# EAGLE library part ADM1024ARUZ (library ON Semiconductor_By_element14_Batch_1)
IC MONITOR SYS TEMP/VOLT
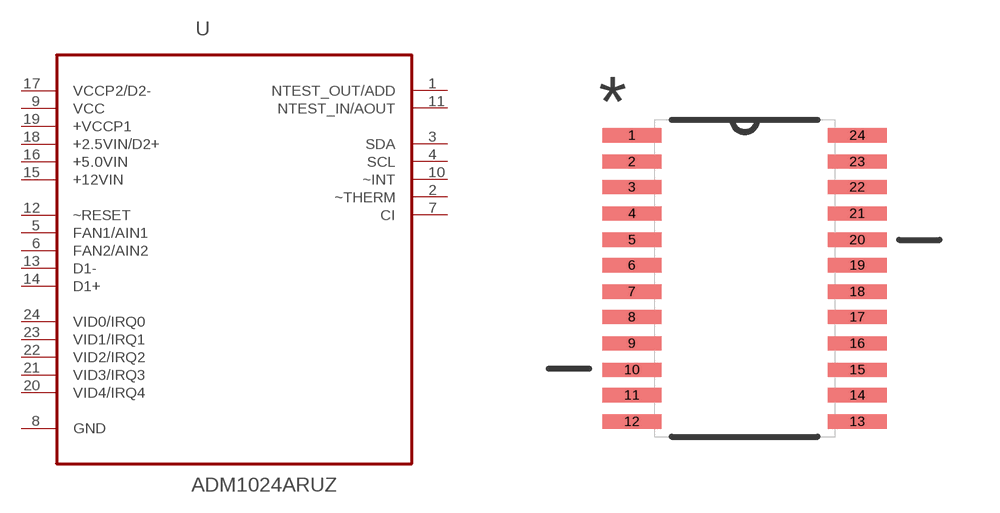
[diagram p2: symbol with the pads of SOP65P640X120-24N; footprint SOP65P640X120-24N]

Designator prefix U

## ADM1024ARUZ (MPN: ADM1024ARUZ; OC_FARNELL: -; OC_NEWARK: 19M8680; PACKAGE: TSSOP-24; SUPPLIER: ON SEMICONDUCTOR)  [SOP65P640X120-24N]
1  NTEST_OUT/ADD
2  ~THERM
3  SDA
4  SCL  out
5  FAN1/AIN1  in
6  FAN2/AIN2  in
7  CI
8  GND  pas
9  VCC  pwr
10  ~INT  out
11  NTEST_IN/AOUT
12  ~RESET
13  D1-  in
14  D1+  in
15  +12VIN  in
16  +5.0VIN  in
17  VCCP2/D2-  pwr
18  +2.5VIN/D2+  in
19  +VCCP1  pwr
20  VID4/IRQ4  in
21  VID3/IRQ3  in
22  VID2/IRQ2  in
23  VID1/IRQ1  in
24  VID0/IRQ0  in

## Footprint SOP65P640X120-24N (pad centres in mm)
smd 1.473 x 0.356: 1 -2.819,3.581; 2 -2.819,2.921; 3 -2.819,2.286; 4 -2.819,1.626; 5 -2.819,0.965; 6 -2.819,0.33; 7 -2.819,-0.33; 8 -2.819,-0.965; 9 -2.819,-1.626; 10 -2.819,-2.286; 11 -2.819,-2.921; 12 -2.819,-3.581; 13 2.819,-3.581; 14 2.819,-2.921; 15 2.819,-2.286; 16 2.819,-1.626; 17 2.819,-0.965; 18 2.819,-0.33; 19 2.819,0.33; 20 2.819,0.965; 21 2.819,1.626; 22 2.819,2.286; 23 2.819,2.921; 24 2.819,3.581